# EAGLE library part BTLC1000-MR110CA (library justinloundagin)
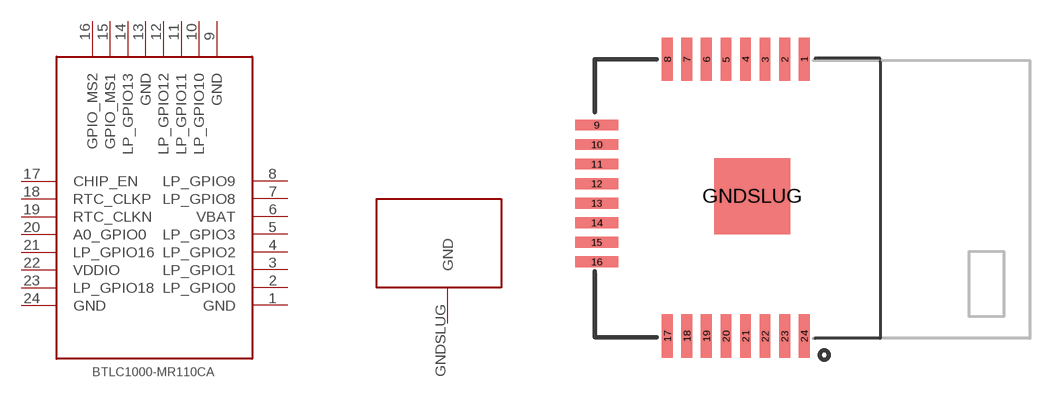
[diagram p0: symbol with the pads of BTLC1000-MR110CA; footprint BTLC1000-MR110CA]

Designator prefix -

## BTLC1000-MR110CABTLC1000-MR110CA  [BTLC1000-MR110CA]
1  GND
2  LP_GPIO0
3  LP_GPIO1
4  LP_GPIO2
5  LP_GPIO3
6  VBAT
7  LP_GPIO8
8  LP_GPIO9
9  GND
10  LP_GPIO10
11  LP_GPIO11
12  LP_GPIO12
13  GND
14  LP_GPIO13
15  GPIO_MS1
16  GPIO_MS2
17  CHIP_EN
18  RTC_CLKP
19  RTC_CLKN
20  A0_GPIO0
21  LP_GPIO16
22  VDDIO
23  LP_GPIO18
24  GND
GNDSLUG  GND

## Footprint BTLC1000-MR110CA (pad centres in mm)
smd 0.5 x 2: 1 0.85,6.56; 2 -0.05,6.56; 3 -0.95,6.56; 4 -1.85,6.56; 5 -2.75,6.56; 6 -3.65,6.56; 7 -4.55,6.56; 8 -5.45,6.56; 17 -5.45,-6.19; 18 -4.55,-6.19; 19 -3.65,-6.19; 20 -2.75,-6.19; 21 -1.85,-6.19; 22 -0.95,-6.19; 23 -0.05,-6.19; 24 0.85,-6.19
smd 2 x 0.5: 9 -8.7,3.535; 10 -8.7,2.635; 11 -8.7,1.735; 12 -8.7,0.835; 13 -8.7,-0.065; 14 -8.7,-0.965; 15 -8.7,-1.865; 16 -8.7,-2.765
smd 3.5 x 3.5: GNDSLUG -1.54,0.26